# EAGLE library part SN74CBTLV3125RGYR (library NM_Visual_Cortex_12-10-18)
Quadruple FET Bus Switch
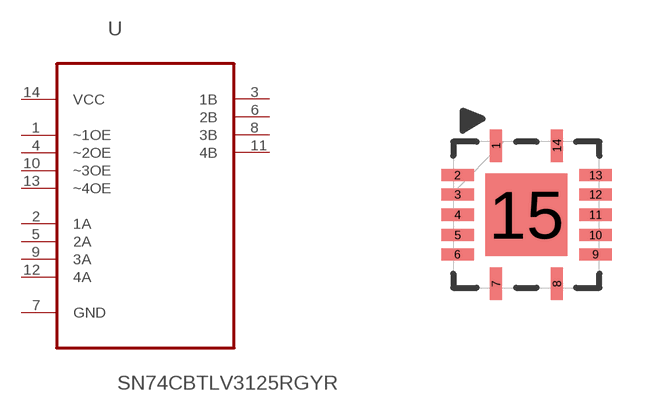
[diagram p12: symbol with the pads of VQFN14; footprint VQFN14]

Designator prefix U

## SN74CBTLV3125RGYR  [VQFN14]
1  ~1OE  in
2  1A
3  1B
4  ~2OE  in
5  2A
6  2B
7  GND  pas
8  3B
9  3A
10  ~3OE  in
11  4B
12  4A
13  ~4OE  in
14  VCC  pwr

## Footprint VQFN14 (pad centres in mm)
smd 0.305 x 0.813: 1 -0.762,1.727; 7 -0.762,-1.727; 8 0.762,-1.727; 14 0.762,1.727
smd 0.813 x 0.305: 2 -1.727,0.991; 3 -1.727,0.508; 4 -1.727,0; 5 -1.727,-0.508; 6 -1.727,-0.991; 9 1.727,-0.991; 10 1.727,-0.508; 11 1.727,0; 12 1.727,0.508; 13 1.727,0.991
smd 2.057 x 2.057: 15 0,0